# Altium footprint library 老主板.PcbLib: 27 footprints (part 2 of 2)
Each footprint in its own frame and in the unit in brackets; x right, y up, seen from the top. Pads: shape width x height; smd on the part's side, far side on the other; paste and mask are expansions set on the pad; w line width, h text height; cw(c..) or ccw(c..) is an arc to the next point about the centre after c.
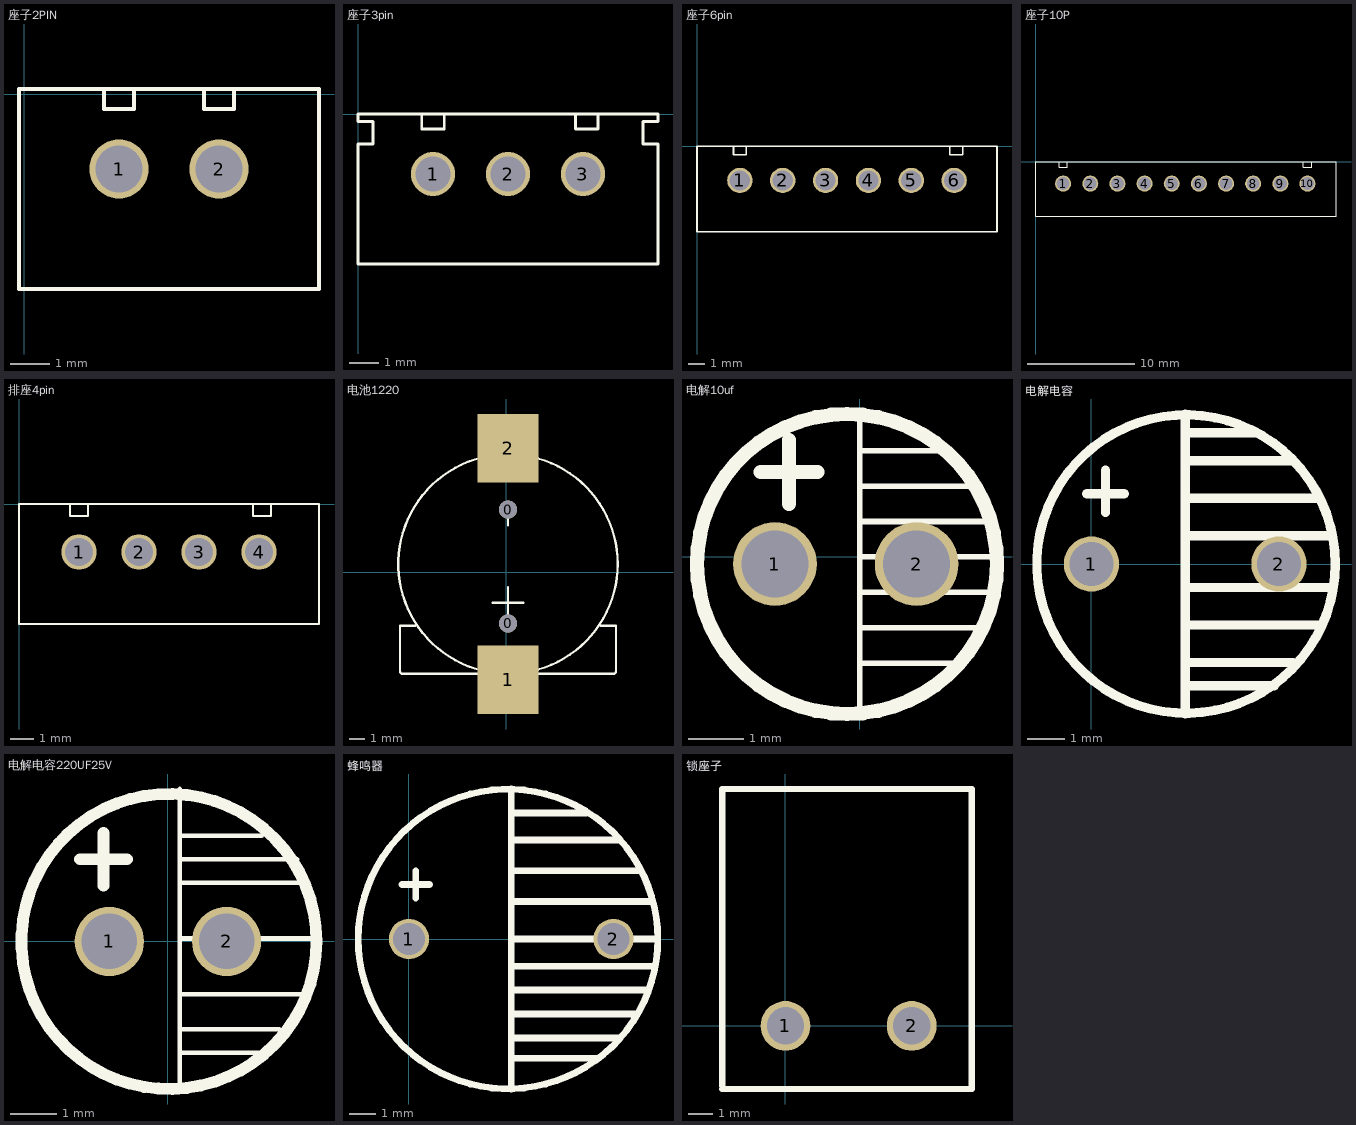
[diagram p1: the footprints below, top view; thin cyan lines are the x and y axes]

## 座子2PIN [mm]
pads (2):
  round 1.5 hole 1.2: 1(2.413,-1.905) 2(4.953,-1.905)
Top Overlay:
  lines w0.1: 2.032,0.127 2.032,-0.381 2.794,-0.381 2.794,0.127 ; 4.572,0.127 4.572,-0.381 5.334,-0.381 5.334,0.127 ; -0.127,-4.953 -0.127,0.127 7.493,0.127 7.493,-4.953 -0.127,-4.953

## 座子3pin [mm]
pads (3):
  round 1.5 hole 1.2: 1(2.54,-2.032) 2(5.08,-2.032) 3(7.62,-2.032)
Top Overlay:
  lines w0.1: 2.159,0 2.159,-0.508 2.921,-0.508 2.921,0 ; 7.366,0 7.366,-0.508 8.128,-0.508 8.128,0 ; 0,-5.08 0,-1.016 0.508,-1.016 0.508,-0.254 0,-0.254 0,0 10.16,0 10.16,-0.254 9.652,-0.254 9.652,-1.016 10.16,-1.016 10.16,-5.08 0,-5.08

## 座子6pin [mm]
pads (6):
  round 1.5 hole 1.2: 1(2.54,-2.032) 2(5.08,-2.032) 3(7.62,-2.032) 4(10.16,-2.032) 5(12.7,-2.032) 6(15.24,-2.032)
Top Overlay:
  lines w0.1: 2.159,0 2.159,-0.508 2.921,-0.508 2.921,0 ; 14.986,0 14.986,-0.508 15.748,-0.508 15.748,0 ; 0,-5.08 17.78,-5.08 17.78,0 0,0 0,-5.08

## 座子10P [mm]
pads (10):
  round 1.5 hole 1.2: 1(2.54,-2.032) 2(5.08,-2.032) 3(7.62,-2.032) 4(10.16,-2.032) 5(12.7,-2.032) 6(15.24,-2.032) 7(17.78,-2.032) 8(20.32,-2.032) 9(22.86,-2.032) 10(25.4,-2.032)
Top Overlay:
  lines w0.1: 2.159,0 2.159,-0.508 2.921,-0.508 2.921,0 ; 25.019,0 25.019,-0.508 25.781,-0.508 25.781,0 ; 0,-5.08 28.067,-5.08 28.067,0 0,0 0,-5.08

## 排座4pin [mm]
pads (4):
  round 1.5 hole 1.2: 1(2.54,-2.032) 2(5.08,-2.032) 3(7.62,-2.032) 4(10.16,-2.032)
Top Overlay:
  lines w0.1: 2.159,0 2.159,-0.508 2.921,-0.508 2.921,0 ; 9.906,0 9.906,-0.508 10.668,-0.508 10.668,0 ; 0,-5.08 12.7,-5.08 12.7,0 0,0 0,-5.08

## 电池1220 [mm]
pads (4):
  round 1.2 hole 1.2: 0(0.127,-3.378) 0(0.127,4.115)
  rect 4x4.5 smd: 1(0.127,-7.087) 2(0.127,8.153)
Top Overlay:
  circle w0.152: c0.127,0.533 r7.22
  lines w0.152: -5.969,-3.531 -6.985,-3.531 -6.985,-6.579 -6.877,-6.687 0.127,-6.687 7.131,-6.687 7.239,-6.579 7.239,-3.531 6.223,-3.531 ; -0.889,-2.007 1.143,-2.007 ; 0.127,-3.023 0.127,-0.991 ; 0.127,3.073 0.127,4.597

## 电解10uf [mm]
pads (2):
  round 1.5 hole 1.2: 1(-1.524,-0.127) 2(1.016,-0.127)
Top Overlay:
  circle w0.254: c-0.232,-0.127 r2.689
  lines w0.1: 0,-2.794 0,2.54 ; 0,-1.905 1.778,-1.905 ; 0,-1.27 2.159,-1.27 ; 0,-0.635 2.413,-0.635 ; 0,0 2.413,0 ; 0,0.635 2.286,0.635 ; 0,1.27 2.032,1.27 ; 0,1.905 1.397,1.905
  lines w0.254: -1.778,1.524 -0.762,1.524 ; -1.27,0.953 -1.27,2.095

## 电解电容 [mm]
pads (2):
  round 1.5 hole 1.2: 1(0,0) 2(5.08,0)
Top Overlay:
  circle w0.254: c2.562,0 r4.042
  lines w0.254: -0.127,1.905 0.889,1.905 ; 0.381,1.397 0.381,2.54 ; 2.54,-4.064 2.54,4.064 ; 2.54,-3.302 4.953,-3.302 ; 2.54,-2.667 5.461,-2.667 ; 2.54,-1.651 6.223,-1.651 ; 2.54,-0.635 6.477,-0.635 ; 2.54,0.762 6.477,0.762 ; 2.54,1.778 6.096,1.778 ; 2.54,2.794 5.461,2.794 ; 2.54,3.556 4.445,3.556

## 电解电容220UF25V [mm]
pads (2):
  round 1.5 hole 1.2: 1(-1.27,0) 2(1.27,0)
Top Overlay:
  circle w0.254: c0.022,0 r3.197
  lines w0.1: 0.254,-3.175 0.254,3.302 ; 0.254,-2.413 2.159,-2.413 ; 0.254,-1.905 2.413,-1.905 ; 0.254,-1.143 2.921,-1.143 ; 0.254,0.064 3.155,0.064 3.219,0 ; 0.254,1.27 2.921,1.27 ; 0.254,1.778 2.794,1.778 ; 0.254,2.286 2.032,2.286
  lines w0.254: -1.905,1.778 -0.889,1.778 ; -1.397,1.206 -1.397,2.349

## 蜂鸣器 [mm]
pads (2):
  round 1.5 hole 1.2: 1(0,0) 2(7.62,0)
Top Overlay:
  circle w0.254: c3.692,0 r5.579
  lines w0.254: -0.254,2.032 0.762,2.032 ; 0.254,1.524 0.254,2.54 ; 3.81,-5.588 3.81,5.588 ; 3.81,-4.445 6.985,-4.445 ; 3.81,-3.683 7.874,-3.683 ; 3.81,-2.794 8.509,-2.794 ; 3.81,-1.905 8.89,-1.905 ; 3.81,-1.016 9.017,-1.016 ; 3.81,0 9.271,0 ; 3.81,1.397 9.017,1.397 ; 3.81,2.54 8.636,2.54 ; 3.81,3.683 7.874,3.683 ; 3.81,4.699 6.604,4.699

## 锁座子 [mm]
pads (2):
  round 2 hole 1.5: 1(0,0) 2(5.08,0)
Top Overlay:
  lines w0.254: -2.54,-2.54 7.493,-2.54 7.493,9.525 -2.54,9.525 -2.54,-2.413